# EAGLE library part TXB0106 (library HyTechDevices-ltc4421 components)
Texas Instruments TXB0106 6-channel low voltage to high voltage Logic Level Shifter. Minimum input voltage level 1.8V. Maximum output voltage level 5.5V.
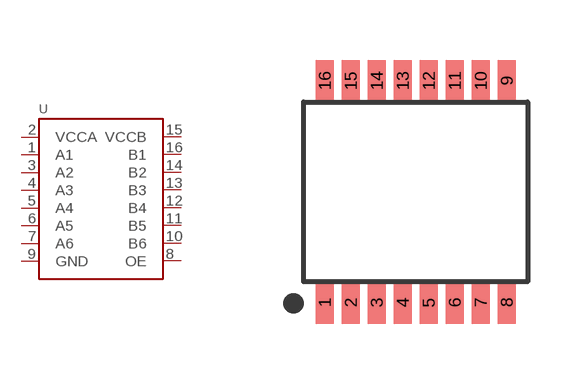
[diagram p17: symbol with the pads of TSSOP-16; footprint TSSOP-16]

Designator prefix -

## TXB0106  [TSSOP-16]
1  A1
2  VCCA  pwr
3  A2
4  A3
5  A4
6  A5
7  A6
8  OE  in
9  GND  pwr
10  B6
11  B5
12  B4
13  B3
14  B2
15  VCCB  pwr
16  B1

## Footprint TSSOP-16 (pad centres in mm)
TSSOP 16 Adapted from TSSOP-14 Datasheet <https://www.analog.com/media/en/package-pcb-resources/package/pkg_pdf/ltc-legacy-tssop/TSSOP_14_05-08-1650.pdf> and TSSOP-20 Datasheet <https://www.analog.com/media/en/package-pcb-resources/package/pkg_pdf/ltc-legacy-tssop/TSSOP_20_05-08-1650.pdf>
smd 0.45 x 1.05: 1 -2.275,-2.775; 2 -1.625,-2.775; 3 -0.975,-2.775; 4 -0.325,-2.775; 5 0.325,-2.775; 6 0.975,-2.775; 7 1.625,-2.775; 8 2.275,-2.775; 9 2.275,2.775; 10 1.625,2.775; 11 0.975,2.775; 12 0.325,2.775; 13 -0.325,2.775; 14 -0.975,2.775; 15 -1.625,2.775; 16 -2.275,2.775